# Altium footprint library mu-ssbpp_FootprintLibrary.PcbLib: 48 footprints (part 2 of 3)
Each footprint in its own frame and in the unit in brackets; x right, y up, seen from the top. Pads: shape width x height; smd on the part's side, far side on the other; paste and mask are expansions set on the pad; w line width, h text height; cw(c..) or ccw(c..) is an arc to the next point about the centre after c.
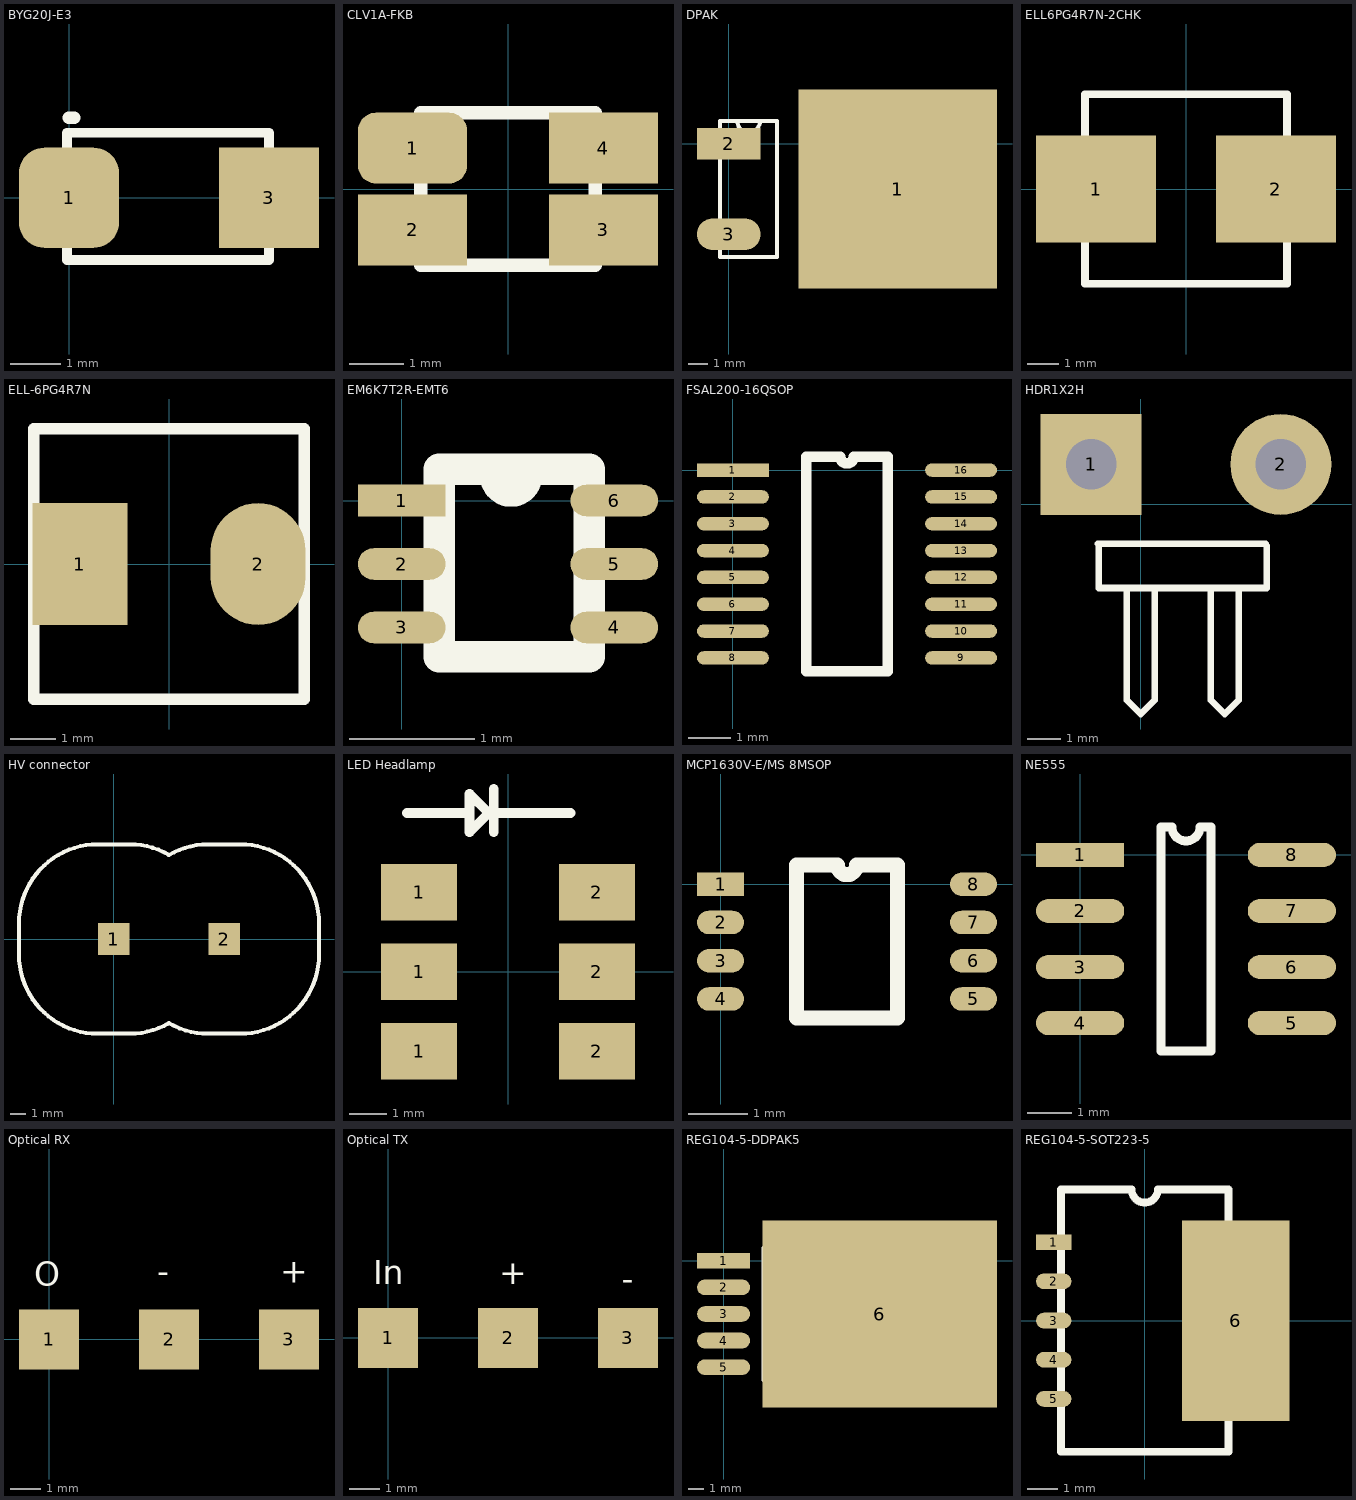
[diagram p1: the footprints below, top view; thin cyan lines are the x and y axes]

## BYG20J-E3 [mm]
pads (2):
  rrect50% 2x2 smd: 1(0,0)
  rect 2x2 smd: 3(4,0)
Top Overlay:
  lines w0.2: 0.325,1.3 4,1.3 4,-1.25 -0.035,-1.25 -0.035,1.3 1.475,1.3
  lines w0.254: 0,1.6 0.1,1.6

## CLV1A-FKB [mm] "Cree RGB SMD LED"
height 1.9
pads (4):
  rrect50% 2x1.3 smd: 1(-1.75,0.75)
  rect 2x1.3 smd: 2(-1.75,-0.75) 3(1.75,-0.75) 4(1.75,0.75)
Top Overlay:
  lines w0.25: -1.6,-1.4 -1.6,1.4 1.6,1.4 1.6,-1.4 -1.6,-1.4

## DPAK [mm]
pads (3):
  rect 10x10 smd: 1(8.5,-2.28)
  rect 3.2x1.6 smd: 2(0,0)
  oval 3.2x1.6 smd: 3(0,-4.56)
Top Overlay:
  lines w0.2: -0.435,-5.7 -0.435,1.14 1.57,1.14 cw(c1,1.14) 0.43,1.14 2.435,1.14 2.435,-5.7 -0.435,-5.7

## ELL6PG4R7N-2CHK [mm] "Panasonic ELL-6UH100M Inductor 10uH"
pads (2):
  rect 3.8x3.4 smd: 1(-2.85,0) 2(2.85,0)
Top Overlay:
  lines w0.25: -3.2,-3 3.2,-3 3.2,3 -3.2,3 -3.2,-3

## ELL-6PG4R7N [mm]
pads (2):
  rect 2.1x2.7 smd: 1(-1.975,0)
  oval 2.1x2.7 smd: 2(1.975,0)
Top Overlay:
  lines w0.25: -3,-3 3,-3 ; -3,3 3,3
  lines w0.254: -3,-3 -3,3 ; 3,-3 3,3

## EM6K7T2R-EMT6 [mil] "Rohm Dual Channel NMOS"
pads (6):
  rect 27.56x10 smd mask+0: 1(0,0)
  oval 27.56x10 smd mask+0: 2(0,-20) 3(0,-40) 4(66.93,-40) 5(66.93,-20) 6(66.93,0)
Top Overlay:
  lines w9.84: 22.64,9.84 59.06,9.84 59.06,-49.21 11.81,-49.21 11.81,9.84 32.48,9.84 ; 29.53,7.87 ccw(c34.45,7.87) 39.37,7.87

## FSAL200-16QSOP [mm]
pads (16):
  rect 1.7x0.317 smd: 1(0,0)
  oval 1.7x0.317 smd: 2(0,-0.635) 3(0,-1.27) 4(0,-1.905) 5(0,-2.54) 6(0,-3.175) 7(0,-3.81) 8(0,-4.445) 9(5.4,-4.445) 10(5.4,-3.81) 11(5.4,-3.175) 12(5.4,-2.54) 13(5.4,-1.905) 14(5.4,-1.27) 15(5.4,-0.635) 16(5.4,0)
Top Overlay:
  lines w0.25: 1.735,-4.763 3.665,-4.763 3.665,0.318 2.859,0.318 cw(c2.7,0.318) 2.541,0.318 1.735,0.318 1.735,-4.763

## HDR1X2H [mil] "Connector; Header; 2 Position; Right Angle"
pads (2):
  rect 120x120 hole 60: 1(-59.05,47.24)
  round 120 hole 60: 2(166.93,47.24)
Top Overlay:
  lines w7.87: -51.18,-47.24 148.82,-47.24 ; -50,-50 -50,-100 150,-100 150,-50 ; -16.67,-100 -16.67,-233.33 0,-250 16.67,-233.33 16.67,-100 ; 83.33,-100 83.33,-233.33 100,-250 116.67,-233.33 116.67,-100

## HV connector [mm]
pads (2):
  rect 2x2 smd: 1(0,0) 2(7,0)
Top Overlay:
  lines w0.254: -6,-1 ccw(c-1,-1) -1,-6 ; -6,-0.9 -6,1 cw(c-1,1) -1,6 0.9,6 ; -1.1,-6 0.9,-6 ; 1,-6 ccw(c1,-1) 3.513,-5.323 ; 1,6 cw(c1,1) 3.492,5.335 ; 3.474,5.315 cw(c6,1) 6,6 7.9,6 ; 3.509,-5.336 ccw(c6,-1) 6,-6 8,-6 ccw(c8,-1) 13,-1 13,0.9 ; 8,6 cw(c8,1) 13,1

## LED Headlamp [mm]
height 4
pads (6):
  rect 2x1.5 smd: 1(-2.35,-2.1) 1(-2.35,0) 1(-2.35,2.1) 2(2.35,-2.1) 2(2.35,0) 2(2.35,2.1)
Top Overlay:
  lines w0.254: -2.667,4.191 -1.016,4.191 ; -0.381,3.683 -0.381,4.826 ; -0.381,4.191 1.651,4.191 ; -1.016,3.683 -1.016,4.699 -0.508,4.191 -1.016,3.683

## MCP1630V-E/MS 8MSOP [mm]
pads (8):
  rect 0.8x0.4 smd: 1(0,0)
  oval 0.8x0.4 smd: 2(0,-0.65) 3(0,-1.3) 4(0,-1.95) 5(4.3,-1.95) 6(4.3,-1.3) 7(4.3,-0.65) 8(4.3,0)
Top Overlay:
  lines w0.254: 1.289,-2.275 3.011,-2.275 3.011,0.325 2.312,0.325 cw(c2.15,0.325) 1.987,0.325 1.289,0.325 1.289,-2.275

## NE555 [mm]
pads (8):
  rect 2x0.55 smd: 1(0,0)
  oval 2x0.55 smd: 2(0,-1.27) 3(0,-2.54) 4(0,-3.81) 5(4.8,-3.81) 6(4.8,-2.54) 7(4.8,-1.27) 8(4.8,0)
Top Overlay:
  lines w0.2: 1.835,-4.445 1.835,0.635 2.083,0.635 ccw(c2.4,0.635) 2.718,0.635 2.965,0.635 2.965,-4.445 1.835,-4.445

## Optical RX [mm]
pads (3):
  rect 2x2 smd: 1(0,0) 2(4,0) 3(8,0)
Top Overlay:
  text "O" at -0.5,1.8 h0.8
  text "-" at 3.6,1.9 h0.8
  text "+" at 7.7,1.9 h0.8

## Optical TX [mm]
pads (3):
  rect 2x2 smd: 1(0,0) 2(4,0) 3(8,0)
Top Overlay:
  text "In" at -0.5,1.8 h0.8
  text "-" at 7.8,1.6 h0.8
  text "+" at 3.7,1.8 h0.8

## REG104-5-DDPAK5 [mm]
pads (6):
  rect 3.4x1 smd: 1(0,0)
  oval 3.4x1 smd: 2(0,-1.7) 3(0,-3.4) 4(0,-5.1) 5(0,-6.8)
  rect 15x12 smd: 6(10,-3.4)
Top Overlay:
  lines w0.2: 2.535,-7.65 2.535,0.85 4.875,0.85 ccw(c5.3,0.85) 5.725,0.85 8.065,0.85 8.065,-7.65 2.535,-7.65

## REG104-5-SOT223-5 [mm]
pads (6):
  rect 1.15x0.51 smd: 1(-2.95,2.54)
  oval 1.15x0.51 smd: 2(-2.95,1.27) 3(-2.95,0) 4(-2.95,-1.27) 5(-2.95,-2.54)
  rect 3.5x6.5 smd: 6(2.95,0)
Top Overlay:
  lines w0.25: -2.715,-4.25 -2.715,4.25 -0.425,4.25 ccw(c0,4.25) 0.425,4.25 2.715,4.25 2.715,-4.25 -2.715,-4.25